# Altium schematic symbol library GENERIC_HEADER_7PIN.SchLib: 1 symbol
Pins are listed as number, name and electrical type; pins without a type are passive.

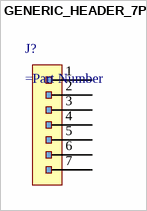
[diagram p0: symbol GENERIC_HEADER_7PIN]

## GENERIC_HEADER_7PIN
designator J?
=Description
pins: 1, 2, 3, 4, 5, 6, 7